# Altium schematic symbol library IC-ADDA.SchLib: 4 symbols
Pins are listed as number, name and electrical type; pins without a type are passive.

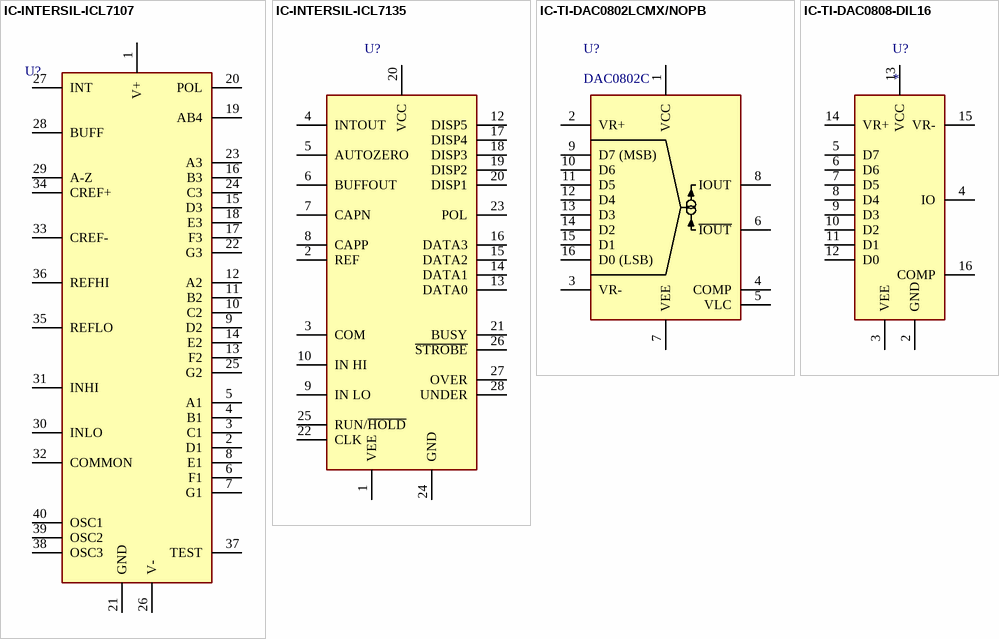
[diagram p0: symbols IC-INTERSIL-ICL7107 to IC-TI-DAC0808-DIL16]

## IC-INTERSIL-ICL7107
designator U?
3-1/2 DIGIT DVM
pins: 1 V+, 2 D1, 3 C1, 4 B1, 5 A1, 6 F1, 7 G1, 8 E1, 9 D2, 10 C2, 11 B2, 12 A2, 13 F2, 14 E2, 15 D3, 16 B3, 17 F3, 18 E3, 19 AB4, 20 POL, 21 GND, 22 G3, 23 A3, 24 C3, 25 G2, 26 V-, 27 INT, 28 BUFF, 29 A-Z, 30 INLO, 31 INHI, 32 COMMON, 33 CREF-, 34 CREF+, 35 REFLO, 36 REFHI, 37 TEST, 38 OSC3, 39 OSC2, 40 OSC1

## IC-INTERSIL-ICL7135
designator U?
4-1/2 DIGIT DVM
pins: 1 VEE, 2 REF, 3 COM, 4 INTOUT, 5 AUTOZERO, 6 BUFFOUT, 7 CAPN, 8 CAPP, 9 IN LO, 10 IN HI, 12 DISP5, 13 DATA0, 14 DATA1, 15 DATA2, 16 DATA3, 17 DISP4, 18 DISP3, 19 DISP2, 20 VCC, 20 DISP1, 21 BUSY, 22 CLK, 23 POL, 24 GND, 25 RUN/~{HOLD}, 26 ~{STROBE}, 27 OVER, 28 UNDER

## IC-TI-DAC0802LCMX/NOPB
designator U?, comment DAC0802C
IC,DAC,8 BIT,CURRENT DIFF,TI,DAC0802LCMX/NOPB,SO16; DIGIKEY: DAC0802LCMX/NOPBCT-ND; Manufacturer 1: TI; Manufacturer Part Number 1: DAC0802LCMX/NOPB
pins: 1 VCC, 2 VR+, 3 VR-, 4 COMP, 5 VLC, 6 ~{IOUT}, 7 VEE, 8 IOUT, 9 D7 (MSB), 10 D6, 11 D5, 12 D4, 13 D3, 14 D2, 15 D1, 16 D0 (LSB)

## IC-TI-DAC0808-DIL16
designator U?
IC,DAC,8BIT,DAC0808,DIL16
pins: 2 GND, 3 VEE, 4 IO, 5 D7, 6 D6, 7 D5, 8 D4, 9 D3, 10 D2, 11 D1, 12 D0, 13 VCC, 14 VR+, 15 VR-, 16 COMP